# EAGLE library part MAX11040KGUU (library MAX11040KGUU)
Maxim technolgies 24/16 BIT high speed sigma delta ADC MAX11040KGUU+
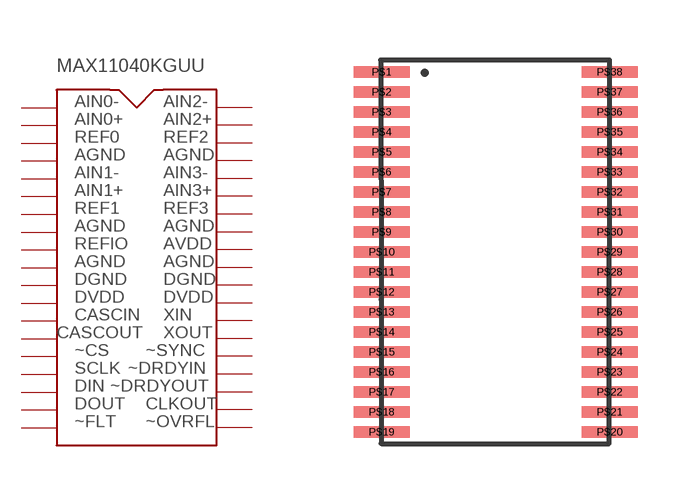
[diagram p0: symbol with the pads of MAX11040KGUU-PAC; footprint MAX11040KGUU-PAC]

Designator prefix -

## MAX11040KGUU  [MAX11040KGUU-PAC]
P$1  P$1
P$2  P$2
P$3  P$3
P$4  P$4
P$5  P$5
P$6  P$6
P$7  P$7
P$8  P$8
P$9  P$9
P$10  P$10
P$11  P$11
P$12  P$12
P$13  P$13
P$14  P$14
P$15  P$15
P$16  P$16
P$17  P$17
P$18  P$18
P$19  P$19
P$20  P$20
P$21  P$21
P$22  P$22
P$23  P$23
P$24  P$24
P$25  P$25
P$26  P$26
P$27  P$27
P$28  P$28
P$29  P$29
P$30  P$30
P$31  P$31
P$32  P$32
P$33  P$33
P$34  P$34
P$35  P$35
P$36  P$36
P$37  P$37
P$38  P$38

## Footprint MAX11040KGUU-PAC (pad centres in mm)
smd 1.4 x 0.28: P$1 0,0; P$2 0,-0.5; P$3 0,-1; P$4 0,-1.5; P$5 0,-2; P$6 0,-2.5; P$7 0,-3; P$8 0,-3.5; P$9 0,-4; P$10 0,-4.5; P$11 0,-5; P$12 0,-5.5; P$13 0,-6; P$14 0,-6.5; P$15 0,-7; P$16 0,-7.5; P$17 0,-8; P$18 0,-8.5; P$19 0,-9; P$20 5.7,-9; P$21 5.7,-8.5; P$22 5.7,-8; P$23 5.7,-7.5; P$24 5.7,-7; P$25 5.7,-6.5; P$26 5.7,-6; P$27 5.7,-5.5; P$28 5.7,-5; P$29 5.7,-4.5; P$30 5.7,-4; P$31 5.7,-3.5; P$32 5.7,-3; P$33 5.7,-2.5; P$34 5.7,-2; P$35 5.7,-1.5; P$36 5.7,-1; P$37 5.7,-0.5; P$38 5.7,0